# EAGLE library part LMZ220* (library NewSDR)
National Semiconductor Simple Switcher Power Module with 20V Max. Input and Current Sharing
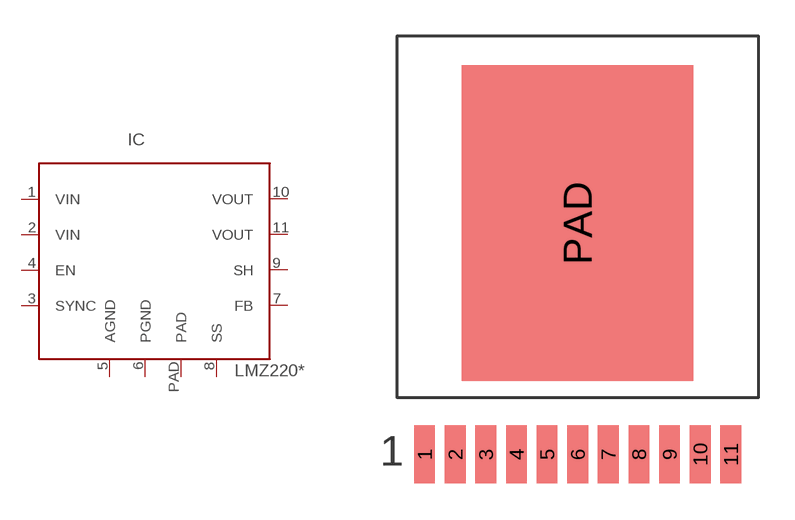
[diagram p179: symbol with the pads of TZA111A; footprint TZA111A]

Designator prefix IC

## LMZ22006, LMZ22008, LMZ22010  [TZA111A]
1  VIN  pwr
2  VIN  pwr
3  SYNC  in
4  EN  in
5  AGND  pwr
6  PGND  pwr
7  FB  pas
8  SS  pas
9  SH  pas
10  VOUT  pwr
11  VOUT  pwr
PAD  PAD  pwr

## Footprint TZA111A (pad centres in mm)
National Semiconductor TZA Package for LMZ Power Modules
smd 0.86 x 2.41: 1 -6.35,-9.6; 2 -5.08,-9.6; 3 -3.81,-9.6; 4 -2.54,-9.6; 5 -1.27,-9.6; 6 0,-9.6; 7 1.27,-9.6; 8 2.54,-9.6; 9 3.81,-9.6; 10 5.08,-9.6; 11 6.35,-9.6
smd 9.6 x 13.1: PAD 0,0